# Altium integrated library WE-DD_rev15a (1).intlib: 71 symbols
Pins are listed as number, name and electrical type; pins without a type are passive.

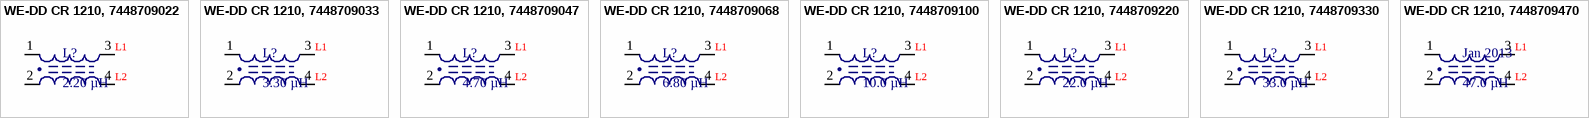
[diagram p0: symbols WE-DD CR 1210, 7448709022 to WE-DD CR 1210, 7448709470]

## WE-DD CR 1210, 7448709022
designator L?, comment 2.20 µH
SMD Shielded Coupled Inductor WE-DD, L=2.20 µH; partNo: 7448709022; Manufacturer: Würth Elektronik eiSos GmbH; Inductance: 2.20 µH; ComponentLink1Description: Manufacturer; ComponentLink1URL: http://www.we-online.de; Created by: Christin Otto; Created Date: August 2013; ComponentLink2Description: Datasheet; ComponentLink2URL: http://katalog.we-online.de/pbs/datasheet/7448709022.pdf
footprint WE-DD CR 1210 (SMD Inductor, 4-Leads, Body 12.5x12.5mm (max))
pins: 1, 2, 3, 4
text: L1; L2

## WE-DD CR 1210, 7448709033
designator L?, comment 3.30 µH
SMD Shielded Coupled Inductor WE-DD, L=3.30 µH; partNo: 7448709033; Manufacturer: Würth Elektronik eiSos GmbH; Inductance: 3.30 µH; ComponentLink1Description: Manufacturer; ComponentLink1URL: http://www.we-online.de; Created by: Christin Otto; Created Date: August 2013; ComponentLink2Description: Datasheet; ComponentLink2URL: http://katalog.we-online.de/pbs/datasheet/7448709033.pdf
footprint WE-DD CR 1210 (SMD Inductor, 4-Leads, Body 12.5x12.5mm (max))
pins: 1, 2, 3, 4
text: L1; L2

## WE-DD CR 1210, 7448709047
designator L?, comment 4.70 µH
SMD Shielded Coupled Inductor WE-DD, L=4.70 µH; partNo: 7448709047; Manufacturer: Würth Elektronik eiSos GmbH; Inductance: 4.70 µH; ComponentLink1Description: Manufacturer; ComponentLink1URL: http://www.we-online.de; Created by: Christin Otto; Created Date: August 2013; ComponentLink2Description: Datasheet; ComponentLink2URL: http://katalog.we-online.de/pbs/datasheet/7448709047.pdf
footprint WE-DD CR 1210 (SMD Inductor, 4-Leads, Body 12.5x12.5mm (max))
pins: 1, 2, 3, 4
text: L1; L2

## WE-DD CR 1210, 7448709068
designator L?, comment 6.80 µH
SMD Shielded Coupled Inductor WE-DD, L=6.80 µH; partNo: 7448709068; Manufacturer: Würth Elektronik eiSos GmbH; Inductance: 6.80 µH; ComponentLink1Description: Manufacturer; ComponentLink1URL: http://www.we-online.de; Created by: Christin Otto; Created Date: August 2013; ComponentLink2Description: Datasheet; ComponentLink2URL: http://katalog.we-online.de/pbs/datasheet/7448709068.pdf
footprint WE-DD CR 1210 (SMD Inductor, 4-Leads, Body 12.5x12.5mm (max))
pins: 1, 2, 3, 4
text: L1; L2

## WE-DD CR 1210, 7448709100
designator L?, comment 10.0 µH
SMD Shielded Coupled Inductor WE-DD, L=10.0 µH; partNo: 7448709100; Manufacturer: Würth Elektronik eiSos GmbH; Inductance: 10.0 µH; ComponentLink1Description: Manufacturer; ComponentLink1URL: http://www.we-online.de; Created by: Christin Zierenner; Created Date: Jan 2013; ComponentLink2Description: Datasheet; ComponentLink2URL: http://katalog.we-online.de/pbs/datasheet/7448709100.pdf
footprint WE-DD CR 1210 (SMD Inductor, 4-Leads, Body 12.5x12.5mm (max))
pins: 1, 2, 3, 4
text: L1; L2

## WE-DD CR 1210, 7448709220
designator L?, comment 22.0 µH
SMD Shielded Coupled Inductor WE-DD, L=22.0 µH; partNo: 7448709220; Manufacturer: Würth Elektronik eiSos GmbH; Inductance: 22.0 µH; ComponentLink1Description: Manufacturer; ComponentLink1URL: http://www.we-online.de; Created by: Christin Zierenner; Created Date: Jan 2013; ComponentLink2Description: Datasheet; ComponentLink2URL: http://katalog.we-online.de/pbs/datasheet/7448709220.pdf
footprint WE-DD CR 1210 (SMD Inductor, 4-Leads, Body 12.5x12.5mm (max))
pins: 1, 2, 3, 4
text: L1; L2

## WE-DD CR 1210, 7448709330
designator L?, comment 33.0 µH
SMD Shielded Coupled Inductor WE-DD, L=33.0 µH; partNo: 7448709330; Manufacturer: Würth Elektronik eiSos GmbH; Inductance: 33.0 µH; ComponentLink1Description: Manufacturer; ComponentLink1URL: http://www.we-online.de; Created by: Christin Zierenner; Created Date: Jan 2013; ComponentLink2Description: Datasheet; ComponentLink2URL: http://katalog.we-online.de/pbs/datasheet/7448709330.pdf
footprint WE-DD CR 1210 (SMD Inductor, 4-Leads, Body 12.5x12.5mm (max))
pins: 1, 2, 3, 4
text: L1; L2

## WE-DD CR 1210, 7448709470
designator Jan 2013, comment 47.0 µH
SMD Shielded Coupled Inductor WE-DD, L=47.0 µH; partNo: 7448709470; Manufacturer: Würth Elektronik eiSos GmbH; Inductance: 47.0 µH; ComponentLink1Description: Manufacturer; ComponentLink1URL: http://www.we-online.de; Created by: Christin Zierenner; Created Date: Jan 2013; ComponentLink2Description: Datasheet; ComponentLink2URL: http://katalog.we-online.de/pbs/datasheet/7448709470.pdf
footprint WE-DD CR 1210 (SMD Inductor, 4-Leads, Body 12.5x12.5mm (max))
pins: 1, 2, 3, 4
text: L1; L2


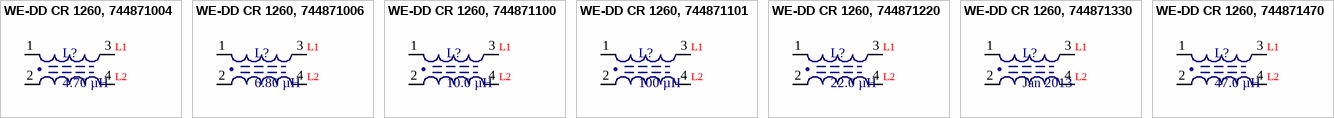
[diagram p1: symbols WE-DD CR 1260, 744871004 to WE-DD CR 1260, 744871470]

## WE-DD CR 1260, 744871004
designator L?, comment 4.70 µH
SMD Shielded Coupled Inductor WE-DD, L=4.70 µH; partNo: 744871004; Manufacturer: Würth Elektronik eiSos GmbH; Inductance: 4.70 µH; ComponentLink1Description: Manufacturer; ComponentLink1URL: http://www.we-online.de; Created by: Christin Zierenner; Created Date: Jan 2013; ComponentLink2Description: Datasheet; ComponentLink2URL: http://www.we-online.de/katalog/media/pdf/744871004.pdf
footprint WE-DD CR 1260 (SMD Inductor, 4-Leads, Body 12.5x12.5mm (max))
pins: 1, 2, 3, 4
text: L1; L2

## WE-DD CR 1260, 744871006
designator L?, comment 6.80 µH
SMD Shielded Coupled Inductor WE-DD, L=6.80 µH; partNo: 744871006; Manufacturer: Würth Elektronik eiSos GmbH; Inductance: 6.80 µH; ComponentLink1Description: Manufacturer; ComponentLink1URL: http://www.we-online.de; Created by: Christin Zierenner; Created Date: Jan 2013; ComponentLink2Description: Datasheet; ComponentLink2URL: http://www.we-online.de/katalog/media/pdf/744871006.pdf
footprint WE-DD CR 1260 (SMD Inductor, 4-Leads, Body 12.5x12.5mm (max))
pins: 1, 2, 3, 4
text: L1; L2

## WE-DD CR 1260, 744871100
designator L?, comment 10.0 µH
SMD Shielded Coupled Inductor WE-DD, L=10.0 µH; partNo: 744871100; Manufacturer: Würth Elektronik eiSos GmbH; Inductance: 10.0 µH; ComponentLink1Description: Manufacturer; ComponentLink1URL: http://www.we-online.de; Created by: Christin Zierenner; Created Date: Jan 2013; ComponentLink2Description: Datasheet; ComponentLink2URL: http://www.we-online.de/katalog/media/pdf/744871100.pdf
footprint WE-DD CR 1260 (SMD Inductor, 4-Leads, Body 12.5x12.5mm (max))
pins: 1, 2, 3, 4
text: L1; L2

## WE-DD CR 1260, 744871101
designator L?, comment 100 µH
SMD Shielded Coupled Inductor WE-DD, L=100 µH; partNo: 744871101; Manufacturer: Würth Elektronik eiSos GmbH; Inductance: 100 µH; ComponentLink1Description: Manufacturer; ComponentLink1URL: http://www.we-online.de; Created by: Christin Zierenner; Created Date: Jan 2013; ComponentLink2Description: Datasheet; ComponentLink2URL: http://www.we-online.de/katalog/media/pdf/744871101.pdf
footprint WE-DD CR 1260 (SMD Inductor, 4-Leads, Body 12.5x12.5mm (max))
pins: 1, 2, 3, 4
text: L1; L2

## WE-DD CR 1260, 744871220
designator L?, comment 22.0 µH
SMD Shielded Coupled Inductor WE-DD, L=22.0 µH; partNo: 744871220; Manufacturer: Würth Elektronik eiSos GmbH; Inductance: 22.0 µH; ComponentLink1Description: Manufacturer; ComponentLink1URL: http://www.we-online.de; Created by: Christin Zierenner; Created Date: Jan 2013; ComponentLink2Description: Datasheet; ComponentLink2URL: http://www.we-online.de/katalog/media/pdf/744871220.pdf
footprint WE-DD CR 1260 (SMD Inductor, 4-Leads, Body 12.5x12.5mm (max))
pins: 1, 2, 3, 4
text: L1; L2

## WE-DD CR 1260, 744871330
designator L?, comment Jan 2013
SMD Shielded Coupled Inductor WE-DD, L=33.0 µH; partNo: 744871330; Manufacturer: Würth Elektronik eiSos GmbH; Inductance: Jan 2013; ComponentLink1Description: Manufacturer; ComponentLink1URL: http://www.we-online.de; Created by: Christin Zierenner; Created Date: Nov 2012; ComponentLink2Description: Datasheet; ComponentLink2URL: http://www.we-online.de/katalog/media/pdf/744871330.pdf
footprint WE-DD CR 1260 (SMD Inductor, 4-Leads, Body 12.5x12.5mm (max))
pins: 1, 2, 3, 4
text: L1; L2

## WE-DD CR 1260, 744871470
designator L?, comment 47.0 µH
SMD Shielded Coupled Inductor WE-DD, L=47.0 µH; partNo: 744871470; Manufacturer: Würth Elektronik eiSos GmbH; Inductance: 47.0 µH; ComponentLink1Description: Manufacturer; ComponentLink1URL: http://www.we-online.de; Created by: Christin Zierenner; Created Date: Jan 2013; ComponentLink2Description: Datasheet; ComponentLink2URL: http://www.we-online.de/katalog/media/pdf/744871470.pdf
footprint WE-DD CR 1260 (SMD Inductor, 4-Leads, Body 12.5x12.5mm (max))
pins: 1, 2, 3, 4
text: L1; L2


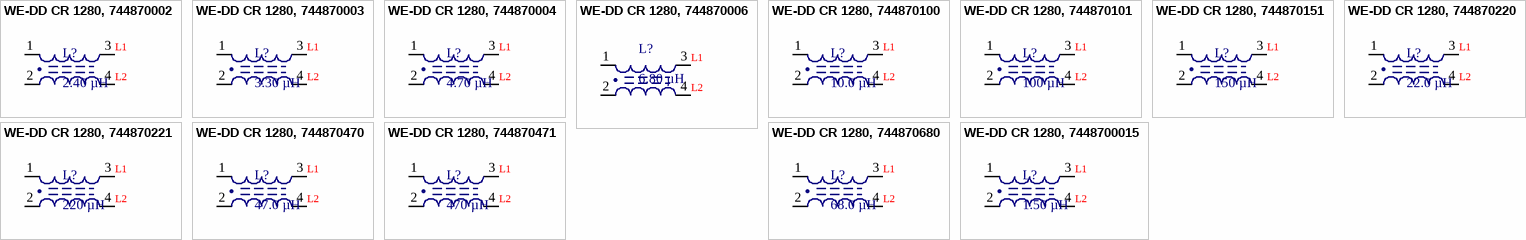
[diagram p2: symbols WE-DD CR 1280, 744870002 to WE-DD CR 1280, 7448700015]

## WE-DD CR 1280, 744870002
designator L?, comment 2.40 µH
SMD Shielded Coupled Inductor WE-DD, L=2.40 µH; partNo: 744870002; Manufacturer: Würth Elektronik eiSos GmbH; Inductance: 2.40 µH; ComponentLink1Description: Manufacturer; ComponentLink1URL: http://www.we-online.de; Created by: Christin Zierenner; Created Date: Jan 2013; ComponentLink2Description: Datasheet; ComponentLink2URL: http://www.we-online.de/katalog/media/pdf/744870002.pdf
footprint WE-DD CR 1280 (SMD Inductor, 4-Leads, Body 12.5x12.5mm (max))
pins: 1, 2, 3, 4
text: L1; L2

## WE-DD CR 1280, 744870003
designator L?, comment 3.30 µH
SMD Shielded Coupled Inductor WE-DD, L=3.30 µH; partNo: 744870003; Manufacturer: Würth Elektronik eiSos GmbH; Inductance: 3.30 µH; ComponentLink1Description: Manufacturer; ComponentLink1URL: http://www.we-online.de; Created by: Christin Zierenner; Created Date: Jan 2013; ComponentLink2Description: Datasheet; ComponentLink2URL: http://www.we-online.de/katalog/media/pdf/744870003.pdf
footprint WE-DD CR 1280 (SMD Inductor, 4-Leads, Body 12.5x12.5mm (max))
pins: 1, 2, 3, 4
text: L1; L2

## WE-DD CR 1280, 744870004
designator L?, comment 4.70 µH
SMD Shielded Coupled Inductor WE-DD, L=4.70 µH; partNo: 744870004; Manufacturer: Würth Elektronik eiSos GmbH; Inductance: 4.70 µH; ComponentLink1Description: Manufacturer; ComponentLink1URL: http://www.we-online.de; Created by: Christin Zierenner; Created Date: Jan 2013; ComponentLink2Description: Datasheet; ComponentLink2URL: http://www.we-online.de/katalog/media/pdf/744870004.pdf
footprint WE-DD CR 1280 (SMD Inductor, 4-Leads, Body 12.5x12.5mm (max))
pins: 1, 2, 3, 4
text: L1; L2

## WE-DD CR 1280, 744870006
designator L?, comment 6.80 µH
SMD Shielded Coupled Inductor WE-DD, L=6.80 µH; partNo: 744870006; Manufacturer: Würth Elektronik eiSos GmbH; Inductance: 6.80 µH; ComponentLink1Description: Manufacturer; ComponentLink1URL: http://www.we-online.de; Created by: Christin Zierenner; Created Date: Jan 2013; ComponentLink2Description: Datasheet; ComponentLink2URL: http://www.we-online.de/katalog/media/pdf/744870006.pdf
footprint WE-DD CR 1280 (SMD Inductor, 4-Leads, Body 12.5x12.5mm (max))
pins: 1, 2, 3, 4
text: L1; L2

## WE-DD CR 1280, 744870100
designator L?, comment 10.0 µH
SMD Shielded Coupled Inductor WE-DD, L=10.0 µH; partNo: 744870100; Manufacturer: Würth Elektronik eiSos GmbH; Inductance: 10.0 µH; ComponentLink1Description: Manufacturer; ComponentLink1URL: http://www.we-online.de; Created by: Christin Zierenner; Created Date: Jan 2013; ComponentLink2Description: Datasheet; ComponentLink2URL: http://www.we-online.de/katalog/media/pdf/744870100.pdf
footprint WE-DD CR 1280 (SMD Inductor, 4-Leads, Body 12.5x12.5mm (max))
pins: 1, 2, 3, 4
text: L1; L2

## WE-DD CR 1280, 744870101
designator L?, comment 100 µH
SMD Shielded Coupled Inductor WE-DD, L=100 µH; partNo: 744870101; Manufacturer: Würth Elektronik eiSos GmbH; Inductance: 100 µH; ComponentLink1Description: Manufacturer; ComponentLink1URL: http://www.we-online.de; Created by: Christin Zierenner; Created Date: Jan 2013; ComponentLink2Description: Datasheet; ComponentLink2URL: http://www.we-online.de/katalog/media/pdf/744870101.pdf
footprint WE-DD CR 1280 (SMD Inductor, 4-Leads, Body 12.5x12.5mm (max))
pins: 1, 2, 3, 4
text: L1; L2

## WE-DD CR 1280, 744870151
designator L?, comment 150 µH
SMD Shielded Coupled Inductor WE-DD, L=150 µH; partNo: 744870151; Manufacturer: Würth Elektronik eiSos GmbH; Inductance: 150 µH; ComponentLink1Description: Manufacturer; ComponentLink1URL: http://www.we-online.de; Created by: Christin Zierenner; Created Date: Jan 2013; ComponentLink2Description: Datasheet; ComponentLink2URL: http://www.we-online.de/katalog/media/pdf/744870151.pdf
footprint WE-DD CR 1280 (SMD Inductor, 4-Leads, Body 12.5x12.5mm (max))
pins: 1, 2, 3, 4
text: L1; L2

## WE-DD CR 1280, 744870220
designator L?, comment 22.0 µH
SMD Shielded Coupled Inductor WE-DD, L=22.0 µH; partNo: 744870220; Manufacturer: Würth Elektronik eiSos GmbH; Inductance: 22.0 µH; ComponentLink1Description: Manufacturer; ComponentLink1URL: http://www.we-online.de; Created by: Christin Zierenner; Created Date: Jan 2013; ComponentLink2Description: Datasheet; ComponentLink2URL: http://www.we-online.de/katalog/media/pdf/744870220.pdf
footprint WE-DD CR 1280 (SMD Inductor, 4-Leads, Body 12.5x12.5mm (max))
pins: 1, 2, 3, 4
text: L1; L2

## WE-DD CR 1280, 744870221
designator L?, comment 220 µH
SMD Shielded Coupled Inductor WE-DD, L=220 µH; partNo: 744870221; Manufacturer: Würth Elektronik eiSos GmbH; Inductance: 220 µH; ComponentLink1Description: Manufacturer; ComponentLink1URL: http://www.we-online.de; Created by: Christin Zierenner; Created Date: Jan 2013; ComponentLink2Description: Datasheet; ComponentLink2URL: http://www.we-online.de/katalog/media/pdf/744870221.pdf
footprint WE-DD CR 1280 (SMD Inductor, 4-Leads, Body 12.5x12.5mm (max))
pins: 1, 2, 3, 4
text: L1; L2

## WE-DD CR 1280, 744870470
designator L?, comment 47.0 µH
SMD Shielded Coupled Inductor WE-DD, L=47.0 µH; partNo: 744870470; Manufacturer: Würth Elektronik eiSos GmbH; Inductance: 47.0 µH; ComponentLink1Description: Manufacturer; ComponentLink1URL: http://www.we-online.de; Created by: Christin Zierenner; Created Date: Jan 2013; ComponentLink2Description: Datasheet; ComponentLink2URL: http://www.we-online.de/katalog/media/pdf/744870470.pdf
footprint WE-DD CR 1280 (SMD Inductor, 4-Leads, Body 12.5x12.5mm (max))
pins: 1, 2, 3, 4
text: L1; L2

## WE-DD CR 1280, 744870471
designator L?, comment 470 µH
SMD Shielded Coupled Inductor WE-DD, L=470 µH; partNo: 744870471; Manufacturer: Würth Elektronik eiSos GmbH; Inductance: 470 µH; ComponentLink1Description: Manufacturer; ComponentLink1URL: http://www.we-online.de; Created by: Christin Otto; Created Date: August 2013; ComponentLink2Description: Datasheet; ComponentLink2URL: http://www.we-online.de/katalog/media/pdf/744870471.pdf
footprint WE-DD CR 1280 (SMD Inductor, 4-Leads, Body 12.5x12.5mm (max))
pins: 1, 2, 3, 4
text: L1; L2

## WE-DD CR 1280, 744870680
designator L?, comment 68.0 µH
SMD Shielded Coupled Inductor WE-DD, L=68.0 µH; partNo: 744870680; Manufacturer: Würth Elektronik eiSos GmbH; Inductance: 68.0 µH; ComponentLink1Description: Manufacturer; ComponentLink1URL: http://www.we-online.de; Created by: Christin Zierenner; Created Date: Jan 2013; ComponentLink2Description: Datasheet; ComponentLink2URL: http://www.we-online.de/katalog/media/pdf/744870680.pdf
footprint WE-DD CR 1280 (SMD Inductor, 4-Leads, Body 12.5x12.5mm (max))
pins: 1, 2, 3, 4
text: L1; L2

## WE-DD CR 1280, 7448700015
designator L?, comment 1.50 µH
SMD Shielded Coupled Inductor WE-DD, L=1.50 µH; partNo: 7448700015; Manufacturer: Würth Elektronik eiSos GmbH; Inductance: 1.50 µH; ComponentLink1Description: Manufacturer; ComponentLink1URL: http://www.we-online.de; Created by: Christin Zierenner; Created Date: Jan 2013; ComponentLink2Description: Datasheet; ComponentLink2URL: http://www.we-online.de/katalog/media/pdf/7448700015.pdf
footprint WE-DD CR 1280 (SMD Inductor, 4-Leads, Body 12.5x12.5mm (max))
pins: 1, 2, 3, 4
text: L1; L2


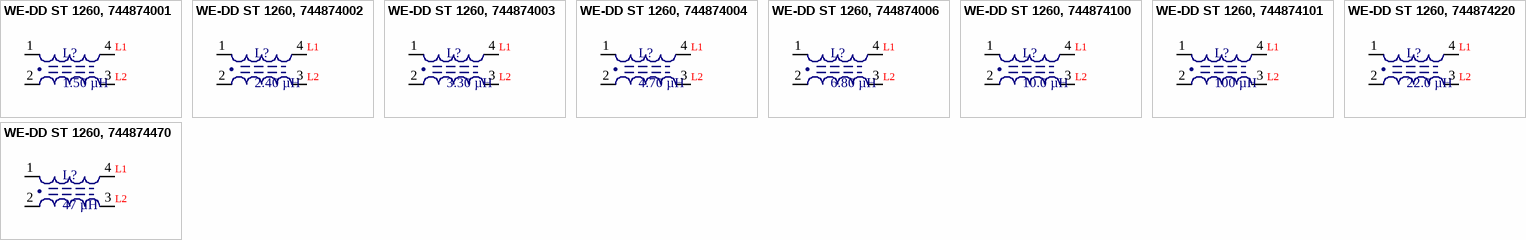
[diagram p3: symbols WE-DD ST 1260, 744874001 to WE-DD ST 1260, 744874470]

## WE-DD ST 1260, 744874001
designator L?, comment 1.50 µH
SMD Shielded Coupled Inductor WE-DD, L=1.50 µH; partNo: 744874001; Manufacturer: Würth Elektronik eiSos GmbH; Inductance: 1.50 µH; ComponentLink1Description: Manufacturer; ComponentLink1URL: http://www.we-online.de; Created by: Christin Zierenner; Created Date: Jan 2013; ComponentLink2Description: Datasheet; ComponentLink2URL: http://www.we-online.de/katalog/media/pdf/744874001.pdf
footprint WE-DD ST 1260 (SMD Inductor, 4-Leads, Body 12.5x12.5mm (max))
pins: 1, 2, 3, 4
text: L1; L2

## WE-DD ST 1260, 744874002
designator L?, comment 2.40 µH
SMD Shielded Coupled Inductor WE-DD, L=2.40 µH; partNo: 744874002; Manufacturer: Würth Elektronik eiSos GmbH; Inductance: 2.40 µH; ComponentLink1Description: Manufacturer; ComponentLink1URL: http://www.we-online.de; Created by: Christin Zierenner; Created Date: Jan 2013; ComponentLink2Description: Datasheet; ComponentLink2URL: http://www.we-online.de/katalog/media/pdf/744874002.pdf
footprint WE-DD ST 1260 (SMD Inductor, 4-Leads, Body 12.5x12.5mm (max))
pins: 1, 2, 3, 4
text: L1; L2

## WE-DD ST 1260, 744874003
designator L?, comment 3.30 µH
SMD Shielded Coupled Inductor WE-DD, L=3.30 µH; partNo: 744874003; Manufacturer: Würth Elektronik eiSos GmbH; Inductance: 3.30 µH; ComponentLink1Description: Manufacturer; ComponentLink1URL: http://www.we-online.de; Created by: Christin Zierenner; Created Date: Jan 2013; ComponentLink2Description: Datasheet; ComponentLink2URL: http://www.we-online.de/katalog/media/pdf/744874003.pdf
footprint WE-DD ST 1260 (SMD Inductor, 4-Leads, Body 12.5x12.5mm (max))
pins: 1, 2, 3, 4
text: L1; L2

## WE-DD ST 1260, 744874004
designator L?, comment 4.70 µH
SMD Shielded Coupled Inductor WE-DD, L=4.70 µH; partNo: 744874004; Manufacturer: Würth Elektronik eiSos GmbH; Inductance: 4.70 µH; ComponentLink1Description: Manufacturer; ComponentLink1URL: http://www.we-online.de; Created by: Christin Zierenner; Created Date: Jan 2013; ComponentLink2Description: Datasheet; ComponentLink2URL: http://www.we-online.de/katalog/media/pdf/744874004.pdf
footprint WE-DD ST 1260 (SMD Inductor, 4-Leads, Body 12.5x12.5mm (max))
pins: 1, 2, 3, 4
text: L1; L2

## WE-DD ST 1260, 744874006
designator L?, comment 6.80 µH
SMD Shielded Coupled Inductor WE-DD, L=6.80 µH; partNo: 744874006; Manufacturer: Würth Elektronik eiSos GmbH; Inductance: 6.80 µH; ComponentLink1Description: Manufacturer; ComponentLink1URL: http://www.we-online.de; Created by: Christin Zierenner; Created Date: Jan 2013; ComponentLink2Description: Datasheet; ComponentLink2URL: http://www.we-online.de/katalog/media/pdf/744874006.pdf
footprint WE-DD ST 1260 (SMD Inductor, 4-Leads, Body 12.5x12.5mm (max))
pins: 1, 2, 3, 4
text: L1; L2

## WE-DD ST 1260, 744874100
designator L?, comment 10.0 µH
SMD Shielded Coupled Inductor WE-DD, L=10.0 µH; partNo: 744874100; Manufacturer: Würth Elektronik eiSos GmbH; Inductance: 10.0 µH; ComponentLink1Description: Manufacturer; ComponentLink1URL: http://www.we-online.de; Created by: Christin Zierenner; Created Date: Jan 2013; ComponentLink2Description: Datasheet; ComponentLink2URL: http://www.we-online.de/katalog/media/pdf/744874100.pdf
footprint WE-DD ST 1260 (SMD Inductor, 4-Leads, Body 12.5x12.5mm (max))
pins: 1, 2, 3, 4
text: L1; L2

## WE-DD ST 1260, 744874101
designator L?, comment 100 µH
SMD Shielded Coupled Inductor WE-DD, L=100 µH; partNo: 744874101; Manufacturer: Würth Elektronik eiSos GmbH; Inductance: 100 µH; ComponentLink1Description: Manufacturer; ComponentLink1URL: http://www.we-online.de; Created by: Christin Zierenner; Created Date: Jan 2013; ComponentLink2Description: Datasheet; ComponentLink2URL: http://www.we-online.de/katalog/media/pdf/744874101.pdf
footprint WE-DD ST 1260 (SMD Inductor, 4-Leads, Body 12.5x12.5mm (max))
pins: 1, 2, 3, 4
text: L1; L2

## WE-DD ST 1260, 744874220
designator L?, comment 22.0 µH
SMD Shielded Coupled Inductor WE-DD, L=22.0 µH; partNo: 744874220; Manufacturer: Würth Elektronik eiSos GmbH; Inductance: 22.0 µH; ComponentLink1Description: Manufacturer; ComponentLink1URL: http://www.we-online.de; Created by: Christin Zierenner; Created Date: Jan 2013; ComponentLink2Description: Datasheet; ComponentLink2URL: http://www.we-online.de/katalog/media/pdf/744874220.pdf
footprint WE-DD ST 1260 (SMD Inductor, 4-Leads, Body 12.5x12.5mm (max))
pins: 1, 2, 3, 4
text: L1; L2

## WE-DD ST 1260, 744874470
designator L?, comment 47 µH
SMD Shielded Coupled Inductor WE-DD, L=47 µH; partNo: 744874470; Manufacturer: Würth Elektronik eiSos GmbH; Inductance: 47 µH; ComponentLink1Description: Manufacturer; ComponentLink1URL: http://www.we-online.de; Created by: Christin Zierenner; Created Date: Jan 2013; ComponentLink2Description: Datasheet; ComponentLink2URL: http://katalog.we-online.de/pbs/datasheet/744874470.pdf
footprint WE-DD ST 1260 (SMD Inductor, 4-Leads, Body 12.5x12.5mm (max))
pins: 1, 2, 3, 4
text: L1; L2


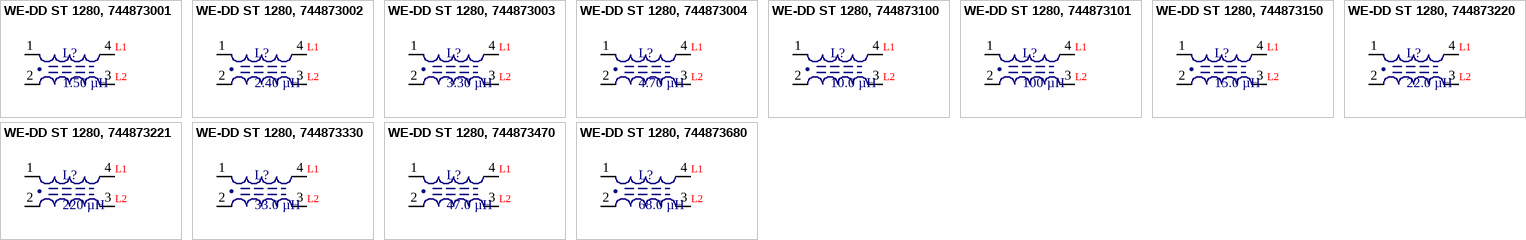
[diagram p4: symbols WE-DD ST 1280, 744873001 to WE-DD ST 1280, 744873680]

## WE-DD ST 1280, 744873001
designator L?, comment 1.50 µH
SMD Shielded Coupled Inductor WE-DD, L=1.50 µH; partNo: 744873001; Manufacturer: Würth Elektronik eiSos GmbH; Inductance: 1.50 µH; ComponentLink1Description: Manufacturer; ComponentLink1URL: http://www.we-online.de; Created by: Christin Zierenner; Created Date: Jan 2013; ComponentLink2Description: Datasheet; ComponentLink2URL: http://www.we-online.de/katalog/media/pdf/744873001.pdf
footprint WE-DD ST 1280 (SOP, 4-Leads, Body 12.5x12.5mm (max), Pitch 3.20mm)
pins: 1, 2, 3, 4
text: L1; L2

## WE-DD ST 1280, 744873002
designator L?, comment 2.40 µH
SMD Shielded Coupled Inductor WE-DD, L=2.40 µH; partNo: 744873002; Manufacturer: Würth Elektronik eiSos GmbH; Inductance: 2.40 µH; ComponentLink1Description: Manufacturer; ComponentLink1URL: http://www.we-online.de; Created by: Christin Zierenner; Created Date: Jan 2013; ComponentLink2Description: Datasheet; ComponentLink2URL: http://www.we-online.de/katalog/media/pdf/744873002.pdf
footprint WE-DD ST 1280 (SMD Inductor, 4-Leads, Body 12,5x12,5mm (max))
pins: 1, 2, 3, 4
text: L1; L2

## WE-DD ST 1280, 744873003
designator L?, comment 3.30 µH
SMD Shielded Coupled Inductor WE-DD, L=3.30 µH; partNo: 744873003; Manufacturer: Würth Elektronik eiSos GmbH; Inductance: 3.30 µH; ComponentLink1Description: Manufacturer; ComponentLink1URL: http://www.we-online.de; Created by: Christin Zierenner; Created Date: Jan 2013; ComponentLink2Description: Datasheet; ComponentLink2URL: http://www.we-online.de/katalog/media/pdf/744873003.pdf
footprint WE-DD ST 1280 (SMD Inductor, 4-Leads, Body 12,5x12,5mm (max))
pins: 1, 2, 3, 4
text: L1; L2

## WE-DD ST 1280, 744873004
designator L?, comment 4.70 µH
SMD Shielded Coupled Inductor WE-DD, L=4.70 µH; partNo: 744873004; Manufacturer: Würth Elektronik eiSos GmbH; Inductance: 4.70 µH; ComponentLink1Description: Manufacturer; ComponentLink1URL: http://www.we-online.de; Created by: Christin Zierenner; Created Date: Jan 2013; ComponentLink2Description: Datasheet; ComponentLink2URL: http://www.we-online.de/katalog/media/pdf/744873004.pdf
footprint WE-DD ST 1280 (SMD Inductor, 4-Leads, Body 12,5x12,5mm (max))
pins: 1, 2, 3, 4
text: L1; L2

## WE-DD ST 1280, 744873100
designator L?, comment 10.0 µH
SMD Shielded Coupled Inductor WE-DD, L=10.0 µH; partNo: 744873100; Manufacturer: Würth Elektronik eiSos GmbH; Inductance: 10.0 µH; ComponentLink1Description: Manufacturer; ComponentLink1URL: http://www.we-online.de; Created by: Christin Zierenner; Created Date: Jan 2013; ComponentLink2Description: Datasheet; ComponentLink2URL: http://www.we-online.de/katalog/media/pdf/744873100.pdf
footprint WE-DD ST 1280 (SMD Inductor, 4-Leads, Body 12,5x12,5mm (max))
pins: 1, 2, 3, 4
text: L1; L2

## WE-DD ST 1280, 744873101
designator L?, comment 100 µH
SMD Shielded Coupled Inductor WE-DD, L=100 µH; partNo: 744873101; Manufacturer: Würth Elektronik eiSos GmbH; Inductance: 100 µH; ComponentLink1Description: Manufacturer; ComponentLink1URL: http://www.we-online.de; Created by: Christin Zierenner; Created Date: Jan 2013; ComponentLink2Description: Datasheet; ComponentLink2URL: http://www.we-online.de/katalog/media/pdf/744873101.pdf
footprint WE-DD ST 1280 (SMD Inductor, 4-Leads, Body 12,5x12,5mm (max))
pins: 1, 2, 3, 4
text: L1; L2

## WE-DD ST 1280, 744873150
designator L?, comment 15.0 µH
SMD Shielded Coupled Inductor WE-DD, L=15.0 µH; partNo: 744873150; Manufacturer: Würth Elektronik eiSos GmbH; Inductance: 15.0 µH; ComponentLink1Description: Manufacturer; ComponentLink1URL: http://www.we-online.de; Created by: Christin Zierenner; Created Date: Jan 2013; ComponentLink2Description: Datasheet; ComponentLink2URL: http://www.we-online.de/katalog/media/pdf/744873150.pdf
footprint WE-DD ST 1280 (SMD Inductor, 4-Leads, Body 12,5x12,5mm (max))
pins: 1, 2, 3, 4
text: L1; L2

## WE-DD ST 1280, 744873220
designator L?, comment 22.0 µH
SMD Shielded Coupled Inductor WE-DD, L=22.0 µH; partNo: 744873220; Manufacturer: Würth Elektronik eiSos GmbH; Inductance: 22.0 µH; ComponentLink1Description: Manufacturer; ComponentLink1URL: http://www.we-online.de; Created by: Christin Zierenner; Created Date: Jan 2013; ComponentLink2Description: Datasheet; ComponentLink2URL: http://www.we-online.de/katalog/media/pdf/744873220.pdf
footprint WE-DD ST 1280 (SMD Inductor, 4-Leads, Body 12,5x12,5mm (max))
pins: 1, 2, 3, 4
text: L1; L2

## WE-DD ST 1280, 744873221
designator L?, comment 220 µH
SMD Shielded Coupled Inductor WE-DD, L=220 µH; partNo: 744873221; Manufacturer: Würth Elektronik eiSos GmbH; Inductance: 220 µH; ComponentLink1Description: Manufacturer; ComponentLink1URL: http://www.we-online.de; Created by: Christin Zierenner; Created Date: Jan 2013; ComponentLink2Description: Datasheet; ComponentLink2URL: http://www.we-online.de/katalog/media/pdf/744873221.pdf
footprint WE-DD ST 1280 (SMD Inductor, 4-Leads, Body 12,5x12,5mm (max))
pins: 1, 2, 3, 4
text: L1; L2

## WE-DD ST 1280, 744873330
designator L?, comment 33.0 µH
SMD Shielded Coupled Inductor WE-DD, L=33.0 µH; partNo: 744873330; Manufacturer: Würth Elektronik eiSos GmbH; Inductance: 33.0 µH; ComponentLink1Description: Manufacturer; ComponentLink1URL: http://www.we-online.de; Created by: Christin Zierenner; Created Date: Jan 2013; ComponentLink2Description: Datasheet; ComponentLink2URL: http://www.we-online.de/katalog/media/pdf/744873330.pdf
footprint WE-DD ST 1280 (SMD Inductor, 4-Leads, Body 12,5x12,5mm (max))
pins: 1, 2, 3, 4
text: L1; L2

## WE-DD ST 1280, 744873470
designator L?, comment 47.0 µH
SMD Shielded Coupled Inductor WE-DD, L=47.0 µH; partNo: 744873470; Manufacturer: Würth Elektronik eiSos GmbH; Inductance: 47.0 µH; ComponentLink1Description: Manufacturer; ComponentLink1URL: http://www.we-online.de; Created by: Christin Zierenner; Created Date: Jan 2013; ComponentLink2Description: Datasheet; ComponentLink2URL: http://www.we-online.de/katalog/media/pdf/744873470.pdf
footprint WE-DD ST 1280 (SMD Inductor, 4-Leads, Body 12,5x12,5mm (max))
pins: 1, 2, 3, 4
text: L1; L2

## WE-DD ST 1280, 744873680
designator L?, comment 68.0 µH
SMD Shielded Coupled Inductor WE-DD, L=68.0 µH; partNo: 744873680; Manufacturer: Würth Elektronik eiSos GmbH; Inductance: 68.0 µH; ComponentLink1Description: Manufacturer; ComponentLink1URL: http://www.we-online.de; Created by: Christin Zierenner; Created Date: Jan 2013; ComponentLink2Description: Datasheet; ComponentLink2URL: http://www.we-online.de/katalog/media/pdf/744873680.pdf
footprint WE-DD ST 1280 (SMD Inductor, 4-Leads, Body 12,5x12,5mm (max))
pins: 1, 2, 3, 4
text: L1; L2


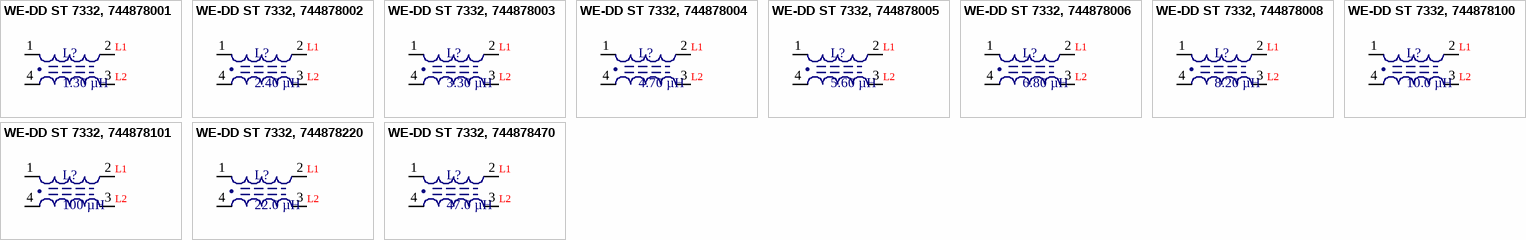
[diagram p5: symbols WE-DD ST 7332, 744878001 to WE-DD ST 7332, 744878470]

## WE-DD ST 7332, 744878001
designator L?, comment 1.30 µH
SMD Shielded Coupled Inductor WE-DD, L=1.30 µH; partNo: 744878001; Manufacturer: Würth Elektronik eiSos GmbH; Inductance: 1.30 µH; ComponentLink1Description: Manufacturer; ComponentLink1URL: http://www.we-online.de; Created by: Christin Zierenner; Created Date: Jan 2013; ComponentLink2Description: Datasheet; ComponentLink2URL: http://www.we-online.de/katalog/media/pdf/744878001.pdf
footprint WE-DD ST 7332 (SMD Inductor, 4-Leads, Body 7.3x7.3mm (max))
pins: 1, 2, 3, 4
text: L1; L2

## WE-DD ST 7332, 744878002
designator L?, comment 2.40 µH
SMD Shielded Coupled Inductor WE-DD, L=2.40 µH; partNo: 744878002; Manufacturer: Würth Elektronik eiSos GmbH; Inductance: 2.40 µH; ComponentLink1Description: Manufacturer; ComponentLink1URL: http://www.we-online.de; Created by: Christin Zierenner; Created Date: Jan 2013; ComponentLink2Description: Datasheet; ComponentLink2URL: http://www.we-online.de/katalog/media/pdf/744878002.pdf
footprint WE-DD ST 7332 (SMD Inductor, 4-Leads, Body 7.3x7.3mm (max))
pins: 1, 2, 3, 4
text: L1; L2

## WE-DD ST 7332, 744878003
designator L?, comment 3.30 µH
SMD Shielded Coupled Inductor WE-DD, L=3.30 µH; partNo: 744878003; Manufacturer: Würth Elektronik eiSos GmbH; Inductance: 3.30 µH; ComponentLink1Description: Manufacturer; ComponentLink1URL: http://www.we-online.de; Created by: Christin Zierenner; Created Date: Jan 2013; ComponentLink2Description: Datasheet; ComponentLink2URL: http://www.we-online.de/katalog/media/pdf/744878003.pdf
footprint WE-DD ST 7332 (SMD Inductor, 4-Leads, Body 7.3x7.3mm (max))
pins: 1, 2, 3, 4
text: L1; L2

## WE-DD ST 7332, 744878004
designator L?, comment 4.70 µH
SMD Shielded Coupled Inductor WE-DD, L=4.70 µH; partNo: 744878004; Manufacturer: Würth Elektronik eiSos GmbH; Inductance: 4.70 µH; ComponentLink1Description: Manufacturer; ComponentLink1URL: http://www.we-online.de; Created by: Christin Zierenner; Created Date: Jan 2013; ComponentLink2Description: Datasheet; ComponentLink2URL: http://www.we-online.de/katalog/media/pdf/744878004.pdf
footprint WE-DD ST 7332 (SMD Inductor, 4-Leads, Body 7.3x7.3mm (max))
pins: 1, 2, 3, 4
text: L1; L2

## WE-DD ST 7332, 744878005
designator L?, comment 5.60 µH
SMD Shielded Coupled Inductor WE-DD, L=5.60 µH; partNo: 744878005; Manufacturer: Würth Elektronik eiSos GmbH; Inductance: 5.60 µH; ComponentLink1Description: Manufacturer; ComponentLink1URL: http://www.we-online.de; Created by: Christin Zierenner; Created Date: Jan 2013; ComponentLink2Description: Datasheet; ComponentLink2URL: http://www.we-online.de/katalog/media/pdf/744878005.pdf
footprint WE-DD ST 7332 (SMD Inductor, 4-Leads, Body 7.3x7.3mm (max))
pins: 1, 2, 3, 4
text: L1; L2

## WE-DD ST 7332, 744878006
designator L?, comment 6.80 µH
SMD Shielded Coupled Inductor WE-DD, L=6.80 µH; partNo: 744878006; Manufacturer: Würth Elektronik eiSos GmbH; Inductance: 6.80 µH; ComponentLink1Description: Manufacturer; ComponentLink1URL: http://www.we-online.de; Created by: Christin Zierenner; Created Date: Jan 2013; ComponentLink2Description: Datasheet; ComponentLink2URL: http://www.we-online.de/katalog/media/pdf/744878006.pdf
footprint WE-DD ST 7332 (SMD Inductor, 4-Leads, Body 7.3x7.3mm (max))
pins: 1, 2, 3, 4
text: L1; L2

## WE-DD ST 7332, 744878008
designator L?, comment 8.20 µH
SMD Shielded Coupled Inductor WE-DD, L=8.20 µH; partNo: 744878008; Manufacturer: Würth Elektronik eiSos GmbH; Inductance: 8.20 µH; ComponentLink1Description: Manufacturer; ComponentLink1URL: http://www.we-online.de; Created by: Christin Zierenner; Created Date: Jan 2013; ComponentLink2Description: Datasheet; ComponentLink2URL: http://www.we-online.de/katalog/media/pdf/744878008.pdf
footprint WE-DD ST 7332 (SMD Inductor, 4-Leads, Body 7.3x7.3mm (max))
pins: 1, 2, 3, 4
text: L1; L2

## WE-DD ST 7332, 744878100
designator L?, comment 10.0 µH
SMD Shielded Coupled Inductor WE-DD, L=10.0 µH; partNo: 744878100; Manufacturer: Würth Elektronik eiSos GmbH; Inductance: 10.0 µH; ComponentLink1Description: Manufacturer; ComponentLink1URL: http://www.we-online.de; Created by: Christin Zierenner; Created Date: Jan 2013; ComponentLink2Description: Datasheet; ComponentLink2URL: http://www.we-online.de/katalog/media/pdf/744878100.pdf
footprint WE-DD ST 7332 (SMD Inductor, 4-Leads, Body 7.3x7.3mm (max))
pins: 1, 2, 3, 4
text: L1; L2

## WE-DD ST 7332, 744878101
designator L?, comment 100 µH
SMD Shielded Coupled Inductor WE-DD, L=100 µH; partNo: 744878101; Manufacturer: Würth Elektronik eiSos GmbH; Inductance: 100 µH; ComponentLink1Description: Manufacturer; ComponentLink1URL: http://www.we-online.de; Created by: Christin Zierenner; Created Date: Jan 2013; ComponentLink2Description: Datasheet; ComponentLink2URL: http://www.we-online.de/katalog/media/pdf/744878101.pdf
footprint WE-DD ST 7332 (SMD Inductor, 4-Leads, Body 7.3x7.3mm (max))
pins: 1, 2, 3, 4
text: L1; L2

## WE-DD ST 7332, 744878220
designator L?, comment 22.0 µH
SMD Shielded Coupled Inductor WE-DD, L=22.0 µH; partNo: 744878220; Manufacturer: Würth Elektronik eiSos GmbH; Inductance: 22.0 µH; ComponentLink1Description: Manufacturer; ComponentLink1URL: http://www.we-online.de; Created by: Christin Zierenner; Created Date: Jan 2013; ComponentLink2Description: Datasheet; ComponentLink2URL: http://www.we-online.de/katalog/media/pdf/744878220.pdf
footprint WE-DD ST 7332 (SMD Inductor, 4-Leads, Body 7.3x7.3mm (max))
pins: 1, 2, 3, 4
text: L1; L2

## WE-DD ST 7332, 744878470
designator L?, comment 47.0 µH
SMD Shielded Coupled Inductor WE-DD, L=47.0 µH; partNo: 744878470; Manufacturer: Würth Elektronik eiSos GmbH; Inductance: 47.0 µH; ComponentLink1Description: Manufacturer; ComponentLink1URL: http://www.we-online.de; Created by: Christin Zierenner; Created Date: Jan 2013; ComponentLink2Description: Datasheet; ComponentLink2URL: http://www.we-online.de/katalog/media/pdf/744878470.pdf
footprint WE-DD ST 7332 (SMD Inductor, 4-Leads, Body 7.3x7.3mm (max))
pins: 1, 2, 3, 4
text: L1; L2


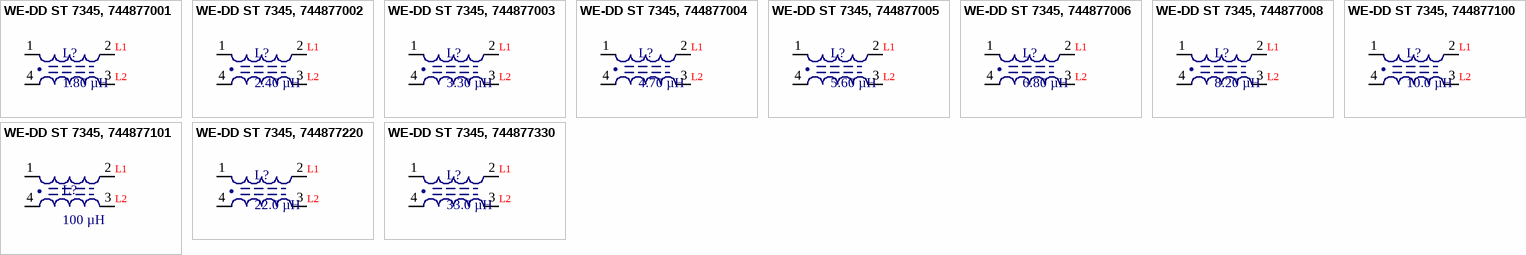
[diagram p6: symbols WE-DD ST 7345, 744877001 to WE-DD ST 7345, 744877330]

## WE-DD ST 7345, 744877001
designator L?, comment 1.80 µH
SMD Shielded Coupled Inductor WE-DD, L=1.80 µH; partNo: 744877001; Manufacturer: Würth Elektronik eiSos GmbH; Inductance: 1.80 µH; ComponentLink1Description: Manufacturer; ComponentLink1URL: http://www.we-online.de; Created by: Christin Zierenner; Created Date: Jan 2013; ComponentLink2Description: Datasheet; ComponentLink2URL: http://www.we-online.de/katalog/media/pdf/744877001.pdf
footprint WE-DD ST 7345 (SMD Inductor,  4-Leads, Body 7.3x7.3mm (max))
pins: 1, 2, 3, 4
text: L1; L2

## WE-DD ST 7345, 744877002
designator L?, comment 2.40 µH
SMD Shielded Coupled Inductor WE-DD, L=2.40 µH; partNo: 744877002; Manufacturer: Würth Elektronik eiSos GmbH; Inductance: 2.40 µH; ComponentLink1Description: Manufacturer; ComponentLink1URL: http://www.we-online.de; Created by: Christin Zierenner; Created Date: Jan 2013; ComponentLink2Description: Datasheet; ComponentLink2URL: http://www.we-online.de/katalog/media/pdf/744877002.pdf
footprint WE-DD ST 7345 (SMD Inductor,  4-Leads, Body 7.3x7.3mm (max))
pins: 1, 2, 3, 4
text: L1; L2

## WE-DD ST 7345, 744877003
designator L?, comment 3.30 µH
SMD Shielded Coupled Inductor WE-DD, L=3.30 µH; partNo: 744877003; Manufacturer: Würth Elektronik eiSos GmbH; Inductance: 3.30 µH; ComponentLink1Description: Manufacturer; ComponentLink1URL: http://www.we-online.de; Created by: Christin Zierenner; Created Date: Jan 2013; ComponentLink2Description: Datasheet; ComponentLink2URL: http://www.we-online.de/katalog/media/pdf/744877003.pdf
footprint WE-DD ST 7345 (SMD Inductor,  4-Leads, Body 7.3x7.3mm (max))
pins: 1, 2, 3, 4
text: L1; L2

## WE-DD ST 7345, 744877004
designator L?, comment 4.70 µH
SMD Shielded Coupled Inductor WE-DD, L=4.70 µH; partNo: 744877004; Manufacturer: Würth Elektronik eiSos GmbH; Inductance: 4.70 µH; ComponentLink1Description: Manufacturer; ComponentLink1URL: http://www.we-online.de; Created by: Christin Zierenner; Created Date: Jan 2013; ComponentLink2Description: Datasheet; ComponentLink2URL: http://www.we-online.de/katalog/media/pdf/744877004.pdf
footprint WE-DD ST 7345 (SMD Inductor,  4-Leads, Body 7.3x7.3mm (max))
pins: 1, 2, 3, 4
text: L1; L2

## WE-DD ST 7345, 744877005
designator L?, comment 5.60 µH
SMD Shielded Coupled Inductor WE-DD, L=5.60 µH; partNo: 744877005; Manufacturer: Würth Elektronik eiSos GmbH; Inductance: 5.60 µH; ComponentLink1Description: Manufacturer; ComponentLink1URL: http://www.we-online.de; Created by: Christin Zierenner; Created Date: Jan 2013; ComponentLink2Description: Datasheet; ComponentLink2URL: http://katalog.we-online.de/pbs/datasheet/744877005.pdf
footprint WE-DD ST 7345 (SMD Inductor,  4-Leads, Body 7.3x7.3mm (max))
pins: 1, 2, 3, 4
text: L1; L2

## WE-DD ST 7345, 744877006
designator L?, comment 6.80 µH
SMD Shielded Coupled Inductor WE-DD, L=6.80 µH; partNo: 744877006; Manufacturer: Würth Elektronik eiSos GmbH; Inductance: 6.80 µH; ComponentLink1Description: Manufacturer; ComponentLink1URL: http://www.we-online.de; Created by: Christin Zierenner; Created Date: Jan 2013; ComponentLink2Description: Datasheet; ComponentLink2URL: http://katalog.we-online.de/pbs/datasheet/744877006.pdf
footprint WE-DD ST 7345 (SMD Inductor,  4-Leads, Body 7.3x7.3mm (max))
pins: 1, 2, 3, 4
text: L1; L2

## WE-DD ST 7345, 744877008
designator L?, comment 8.20 µH
SMD Shielded Coupled Inductor WE-DD, L=8.20 µH; partNo: 744877008; Manufacturer: Würth Elektronik eiSos GmbH; Inductance: 8.20 µH; ComponentLink1Description: Manufacturer; ComponentLink1URL: http://www.we-online.de; Created by: Christin Zierenner; Created Date: Jan 2013; ComponentLink2Description: Datasheet; ComponentLink2URL: http://katalog.we-online.de/pbs/datasheet/744877008.pdf
footprint WE-DD ST 7345 (SMD Inductor,  4-Leads, Body 7.3x7.3mm (max))
pins: 1, 2, 3, 4
text: L1; L2

## WE-DD ST 7345, 744877100
designator L?, comment 10.0 µH
SMD Shielded Coupled Inductor WE-DD, L=10.0 µH; partNo: 744877100; Manufacturer: Würth Elektronik eiSos GmbH; Inductance: 10.0 µH; ComponentLink1Description: Manufacturer; ComponentLink1URL: http://www.we-online.de; Created by: Christin Zierenner; Created Date: Jan 2013; ComponentLink2Description: Datasheet; ComponentLink2URL: http://www.we-online.de/katalog/media/pdf/744877100.pdf
footprint WE-DD ST 7345 (SMD Inductor,  4-Leads, Body 7.3x7.3mm (max))
pins: 1, 2, 3, 4
text: L1; L2

## WE-DD ST 7345, 744877101
designator L?, comment 100 µH
SMD Shielded Coupled Inductor WE-DD, L=100 µH; partNo: 744877101; Manufacturer: Würth Elektronik eiSos GmbH; Inductance: 100 µH; ComponentLink1Description: Manufacturer; ComponentLink1URL: http://www.we-online.de; Created by: Christin Zierenner; Created Date: Jan 2013; ComponentLink2Description: Datasheet; ComponentLink2URL: http://www.we-online.de/katalog/media/pdf/744877101.pdf
footprint WE-DD ST 7345 (SMD Inductor,  4-Leads, Body 7.3x7.3mm (max))
pins: 1, 2, 3, 4
text: L1; L2

## WE-DD ST 7345, 744877220
designator L?, comment 22.0 µH
SMD Shielded Coupled Inductor WE-DD, L=22.0 µH; partNo: 744877220; Manufacturer: Würth Elektronik eiSos GmbH; Inductance: 22.0 µH; ComponentLink1Description: Manufacturer; ComponentLink1URL: http://www.we-online.de; Created by: Christin Zierenner; Created Date: Jan 2013; ComponentLink2Description: Datasheet; ComponentLink2URL: http://www.we-online.de/katalog/media/pdf/744877220.pdf
footprint WE-DD ST 7345 (SMD Inductor,  4-Leads, Body 7.3x7.3mm (max))
pins: 1, 2, 3, 4
text: L1; L2

## WE-DD ST 7345, 744877330
designator L?, comment 33.0 µH
SMD Shielded Coupled Inductor WE-DD, L=33.0 µH; partNo: 744877330; Manufacturer: Würth Elektronik eiSos GmbH; Inductance: 33.0 µH; ComponentLink1Description: Manufacturer; ComponentLink1URL: http://www.we-online.de; Created by: Christin Otto; Created Date: August 2013; ComponentLink2Description: Datasheet; ComponentLink2URL: http://www.we-online.de/katalog/media/pdf/744877330.pdf
footprint WE-DD ST 7345 (SMD Inductor,  4-Leads, Body 7.3x7.3mm (max))
pins: 1, 2, 3, 4
text: L1; L2